# EAGLE library part 612010235121 (library Wire-to-Board (rev18a))
WR-BHD 2.54mm Male Box Header High Temperature, 10 Pins=>Code : Con_WTB_BHD_2.54_Male_THT_RS_612010235121 <http://katalog.we-online.de/media/thumbs2/eican/thb_Con_WTB_BHD_2.54_Male_THT_RS_6120xx235121_pf2.jpg> Details see: http://katalog.we-online.de/en/em/612_0xx_235_121 Created 2014-06-05, Karrer Zheng 2014 (C) Würth Elektronik
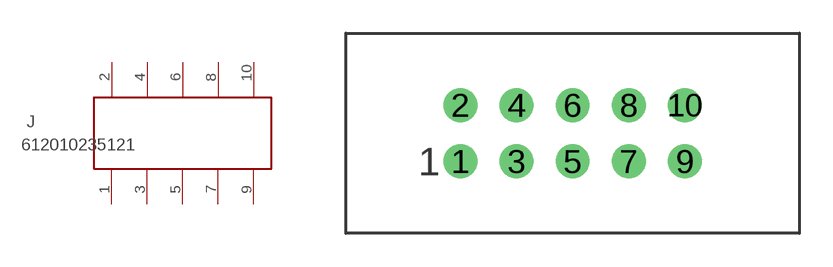
[diagram p128: symbol with the pads of 612010235121; footprint 612010235121]

Designator prefix J

## 612010235121  [612010235121]
1  1  pas
2  2  pas
3  3  pas
4  4  pas
5  5  pas
6  6  pas
7  7  pas
8  8  pas
9  9  pas
10  10  pas

## Footprint 612010235121 (pad centres in mm)
WR-BHD 2.54mm Male Box Header High Temperature, 10 Pins
drill 1.02: 1 -5.08,-1.27; 2 -5.08,1.27; 3 -2.54,-1.27; 4 -2.54,1.27; 5 0,-1.27; 6 0,1.27; 7 2.54,-1.27; 8 2.54,1.27; 9 5.08,-1.27; 10 5.08,1.27